# EAGLE library part CS1601-FSZ (library Cirrus_Logic_By_element14_Batch_1)
DIGITAL POWER FACTOR FOR ELECTRICAL BALLASTS
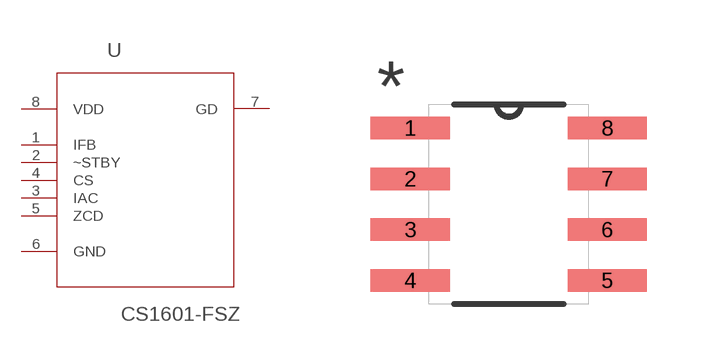
[diagram p14: symbol with the pads of SOIC127P600X175-8N; footprint SOIC127P600X175-8N]

Designator prefix U

## CS1601-FSZ (MPN: CS1601-FSZ; OC_FARNELL: 1903289; OC_NEWARK: 31T9371; PACKAGE: SOIC-8; SUPPLIER: CIRRUSLOGIC)  [SOIC127P600X175-8N]
1  IFB  in
2  ~STBY  in
3  IAC  in
4  CS  in
5  ZCD  in
6  GND  pas
7  GD  out
8  VDD  pwr

## Footprint SOIC127P600X175-8N (pad centres in mm)
smd 1.981 x 0.559: 1 -2.464,1.905; 2 -2.464,0.635; 3 -2.464,-0.635; 4 -2.464,-1.905; 5 2.464,-1.905; 6 2.464,-0.635; 7 2.464,0.635; 8 2.464,1.905